# Altium footprint library Mod.PcbLib: 24 footprints (part 2 of 2)
Each footprint in its own frame and in the unit in brackets; x right, y up, seen from the top. Pads: shape width x height; smd on the part's side, far side on the other; paste and mask are expansions set on the pad; w line width, h text height; cw(c..) or ccw(c..) is an arc to the next point about the centre after c.
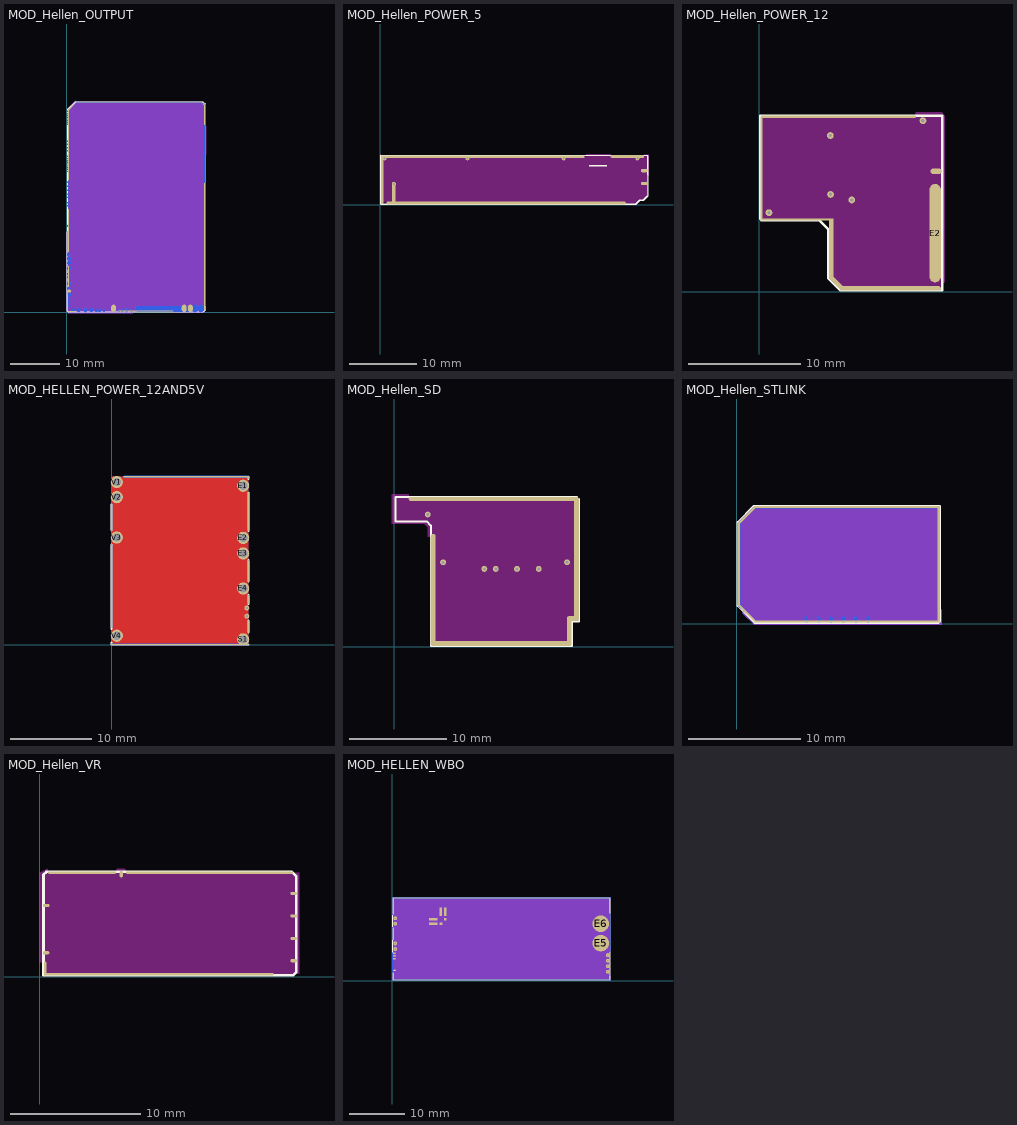
[diagram p1: the footprints below, top view; thin cyan lines are the x and y axes]

## MOD_Hellen_OUTPUT [mm] "Hellen One : Outputs module interface"
pads (73):
  oval 0.2x3.6 smd paste-50 mask+0.102: G(0.175,2.025)
  oval 0.2x0.3 smd rot 45 paste-50 mask+0.102: G(0.245,0.273)
  oval 0.2x4.25 smd paste-50 mask+0.102: G(0.325,7.335)
  oval 0.2x14.4 smd paste-50 mask+0.102: G(0.327,34.056)
  oval 0.2x8.825 smd paste-50 mask+0.102: G(0.327,16.697)
  oval 1.7x0.2 smd paste-50 mask+0.102: G(1.075,0.2)
  oval 2.43x0.2 smd rot 45 paste-50 mask+0.102: G(1.135,42.031)
  oval 25.7x0.2 smd paste-50 mask+0.102: G(14.7,42.835)
  oval 25.6x0.2 smd far side paste-50 mask+0.102: G(14.7,42.825)
  oval 11.325x0.2 smd paste-50 mask+0.102: G(16.025,0.26)
  oval 0.2x1.2 smd far side rot 45 paste-50 mask+0.102: G(27.745,42.47)
  oval 1x0.2 smd rot 135 paste-50 mask+0.102: G(27.789,42.551)
  oval 0.2x25.85 smd paste-50 mask+0.102: G(28.075,13.46)
  oval 0.2x4.15 smd paste-50 mask+0.102: G(28.077,40.271)
  oval 0.2x40.8 smd far side paste-50 mask+0.102: G(28.1,21.8)
  oval 1x1.5 smd far side paste-50: S1(27.302,0.814) S2(26.046,0.814)
  oval 11.4x1.1 smd far side paste-50: S3(19.602,0.689)
  oval 1x1.5 smd paste-50: S4(25.157,0.839) S5(23.902,0.839) S11(9.527,0.839)
  oval 0.4x0.6 smd far side paste-50: S6(13.152,0.389) S8(11.307,0.389) S9(10.577,0.389) S10(9.682,0.389) S12(7.607,0.389) S13(6.707,0.389) S14(5.997,0.389)
  oval 0.6x0.8 smd far side paste-50: S7(12.177,0.489) S15(4.977,0.489) S16(3.802,0.489) S17(2.452,0.489) S18(1.277,0.489)
  oval 0.6x0.4 smd far side paste-50: W1(0.377,1.419) W2(0.377,2.114) W3(0.377,2.794) W6(0.377,4.919) W8(0.377,7.164) W9(0.377,7.814) W13(0.377,11.789) W14(0.377,17.639)
  oval 0.8x0.6 smd far side paste-50: W4(0.472,3.614) W7(0.472,5.889) W10(0.472,9.014) W11(0.472,10.089) W12(0.472,10.964)
  oval 0.8x0.6 smd paste-50: W5(0.472,4.335)
  oval 0.4x0.2 smd far side paste-50: W15(0.272,21.694) W16(0.272,22.354) W17(0.272,23.414) W18(0.272,24.118) W19(0.272,24.918) W20(0.272,25.718) W21(0.272,26.514) W22(0.272,28.709) W23(0.272,29.149) W24(0.272,29.589) W25(0.272,30.029) W26(0.272,30.469) W27(0.272,30.909) W28(0.272,31.349) W29(0.272,31.789) W30(0.272,32.914) W31(0.272,33.574) W32(0.272,34.234) W33(0.272,34.894) W34(0.272,38.299) W35(0.272,38.739) W36(0.272,39.179) W37(0.272,39.619) W38(0.272,40.059) W39(0.272,40.499) W40(0.272,40.939)
Top Layer keep-out:
  region: 0.175,0.342 0.175,3.75 -0.025,3.95 -0.025,4.885 0.35,5.26 0.35,9.375 0.3,9.425 0.05,9.425 0.05,12.275 0.125,12.35 0.35,12.35 0.35,21.05 0.175,21.225 0.175,26.825 0.275,26.925 0.35,26.925 0.359,41.263 1.954,42.858 27.485,42.858 27.485,42.829 28.087,42.227 28.087,38.21 28.35,37.96 28.347,26.41 28.235,26.41 28.075,26.25 28.075,0.66 27.972,0.66 27.972,-0.065 21.65,-0.065 21.368,0.217 21.368,0.263 10.463,0.263 10.25,0.05 10.25,0 1.875,0 1.825,0.05 1.825,0.2 0.317,0.2
Bottom Layer keep-out:
  region: 0.325,-0.2 -0.025,0.15 -0.025,16.425 0.05,16.5 0.05,41.425 1.75,43.125 1.979,42.827 27.388,42.827 28.114,42.101 28.114,1.508 28.27,1.343 28.27,0.515 27.804,-0.035 25.492,-0.028 25.09,0.61 14.255,0.61 13.445,-0.2
Top Overlay:
  lines w0.2: 0.07,0.35 0.07,16.482 0.202,16.614 0.202,41.364 1.777,42.939 27.702,42.939 28.177,42.464 28.177,0.489 27.797,0.109 0.31,0.109 0.131,0.289 0.07,0.35
Bottom Overlay:
  lines w0.2: 0.066,0.349 0.31,0.106 27.794,0.106 28.177,0.489 28.177,42.464 27.702,42.939 1.777,42.939 0.202,41.364 0.202,16.614 0.066,16.478 0.066,0.349

## MOD_Hellen_POWER_5 [mm] "Hellen One : 5V power module interface"
pads (13):
  oval 0.4x7.2 smd paste-50 mask+0.102: G(0.325,3.719)
  round 0.6 hole 0.3 paste-2539.97: G(0.637,6.9) G(12.9,6.9) G(27.1,6.9) G(38,6.9) V2(2.025,3.1)
  oval 30x0.4 smd paste-50 mask+0.102: G(15.2,7.125)
  oval 5x0.4 smd paste-50 mask+0.102: G(36.512,7.175)
  oval 1x0.5 smd paste-50: G(39.02,3.175) V1(39.02,5.075)
  oval 0.2x3.1 smd paste-50 mask+0.102: G(39.495,2.875)
  oval 0.5x3 smd paste-50 mask+0.102: V2(2.025,1.717)
  oval 35.4x0.4 smd paste-50 mask+0.102: V2(18.6,0.3)
Top Layer keep-out:
  region: 0.325,0.4 0.325,0.425 0.35,7.075 0.406,7.131 17.8,7.131 22.518,7.132 22.65,7.131 22.675,7.13 30.4,7.15 30.45,7.2 30.45,7.475 34.075,7.475 34.175,7.375 34.175,7.15 38.775,7.15 39.05,7.425 39.675,7.425 39.675,4.378 39.475,4.375 39.475,4.354 39.46,4.34 39.46,1.148 38.931,0.619 38.425,0.619 38.011,0.205 36.195,0.205 36,0.4
Top Overlay:
  lines w0.2: 30.875,5.825 33.5,5.825 ; 0.1,0.1 0.1,7.35 39.525,7.275 39.525,1.35 38.875,0.7 38.35,0.7 37.75,0.1 0.1,0.1
Bottom Overlay:
  lines w0.2: 30.875,5.825 33.5,5.825 ; 0.1,0.1 0.1,7.35 39.525,7.275 39.525,1.35 38.875,0.7 38.35,0.7 37.75,0.1 0.1,0.1

## MOD_Hellen_POWER_12 [mm] "Hellen One : 12V power module interface"
pads (14):
  oval 1x0.5 smd paste-50: E1(15.725,10.7)
  oval 1x8.745 smd paste-50 mask+0.102: E2(15.64,5.197)
  oval 0.2x9.2 smd paste-50 mask+0.102: S1(0.2,10.944)
  oval 0.2x0.5 smd paste-50: S1(0.2,6.65)
  oval 6.5x0.2 smd paste-50 mask+0.102: S1(3.35,6.425)
  oval 0.4x5.4 smd paste-50 mask+0.102: S1(6.4,3.775)
  oval 0.4x1.6 smd rot 45 paste-50 mask+0.102: S1(6.9,0.775)
  oval 13.8x0.2 smd paste-50 mask+0.102: S1(7.044,15.55)
  oval 9x0.4 smd paste-50 mask+0.102: S1(11.65,0.3)
  round 0.6 hole 0.3 paste-2539.97: V1(14.55,15.2) V2(6.325,13.875) V3(6.343,8.643) V4(8.225,8.15) V5(0.875,7.025)
Top Layer keep-out:
  region: 0.225,6.425 0.25,6.45 0.25,15.55 13.875,15.55 13.9,15.575 13.9,15.924 16.238,15.926 16.482,15.625 16.482,0.832 16.373,0.832 15.975,0.325 7.375,0.325 6.425,1.275 6.425,6.375 6.4,6.4
Top Overlay:
  lines w0.2: 0.1,6.45 0.22,6.33 5.369,6.33 6.125,5.574 6.125,1.199 7.224,0.1 16.275,0.1 16.275,15.625 0.1,15.625 0.1,6.45
Bottom Overlay:
  lines w0.2: 0.1,6.45 0.225,6.325 5.375,6.325 6.125,5.575 6.125,1.175 7.2,0.1 16.275,0.1 16.275,15.625 0.1,15.625 0.1,6.45

## MOD_HELLEN_POWER_12AND5V [mm] "Hellen One : power module interface"
pads (51):
  round 1.5 hole 1 paste-2539.97: E1(16.15,19.5) E2(16.15,13.1) E3(16.15,11.2) E4(16.15,6.9) S1(16.15,0.65) V1(0.65,19.95) V2(0.65,18.1) V3(0.65,13.15) V4(0.65,1.1)
  round 0.6 hole 0.3 paste-2539.97: E5(16.6,4.5) E6(16.6,3.5)
  oval 0.2x0.3 on Mid1 paste-50 mask-1: S1(0,0.05) S1(16.8,20.55)
  oval 0.2x0.3 smd far side paste-50 mask-1: S1(0,0.05) S1(16.8,20.55)
  oval 0.2x0.3 smd paste-50 mask-1: S1(0,0.05) S1(16.8,20.55)
  oval 0.2x0.3 on Mid2 paste-50 mask-1: S1(0,0.05) S1(16.8,20.55)
  oval 0.2x10.2 on Mid1 paste-50 mask-1: S1(0,7.15)
  oval 0.2x10.2 smd far side paste-50 mask-1: S1(0,7.15)
  oval 0.2x10.2 smd paste-50 mask-1: S1(0,7.15)
  oval 0.2x10.2 on Mid2 paste-50 mask-1: S1(0,7.15)
  oval 0.2x3.3 on Mid1 paste-50 mask-1: S1(0,15.65)
  oval 0.2x3.3 smd far side paste-50 mask-1: S1(0,15.65)
  oval 0.2x3.3 smd paste-50 mask-1: S1(0,15.65)
  oval 0.2x3.3 on Mid2 paste-50 mask-1: S1(0,15.65)
  oval 17x0.2 on Mid1 paste-50 mask-1: S1(8.4,0)
  oval 17x0.2 smd far side paste-50 mask-1: S1(8.4,0)
  oval 17x0.2 smd paste-50 mask-1: S1(8.4,0)
  oval 17x0.2 on Mid2 paste-50 mask-1: S1(8.4,0)
  oval 15.4x0.2 on Mid1 paste-50 mask-1: S1(9.2,20.6)
  oval 15.4x0.2 smd far side paste-50 mask-1: S1(9.2,20.6)
  oval 15.4x0.2 smd paste-50 mask-1: S1(9.2,20.6)
  oval 15.4x0.2 on Mid2 paste-50 mask-1: S1(9.2,20.6)
  oval 0.2x1.5 on Mid1 paste-50 mask-1: S1(16.8,2.2)
  oval 0.2x1.5 smd far side paste-50 mask-1: S1(16.8,2.2)
  oval 0.2x1.5 smd paste-50 mask-1: S1(16.8,2.2)
  oval 0.2x1.5 on Mid2 paste-50 mask-1: S1(16.8,2.2)
  oval 0.2x1 on Mid1 paste-50 mask-1: S1(16.8,5.5)
  oval 0.2x1 smd far side paste-50 mask-1: S1(16.8,5.5)
  oval 0.2x1 smd paste-50 mask-1: S1(16.8,5.5)
  oval 0.2x1 on Mid2 paste-50 mask-1: S1(16.8,5.5)
  oval 0.2x2.6 on Mid1 paste-50 mask-1: S1(16.8,9)
  oval 0.2x2.6 smd far side paste-50 mask-1: S1(16.8,9)
  oval 0.2x2.6 smd paste-50 mask-1: S1(16.8,9)
  oval 0.2x2.6 on Mid2 paste-50 mask-1: S1(16.8,9)
  oval 0.2x4.8 on Mid1 paste-50 mask-1: S1(16.8,16.35)
  oval 0.2x4.8 smd far side paste-50 mask-1: S1(16.8,16.35)
  oval 0.2x4.8 smd paste-50 mask-1: S1(16.8,16.35)
  oval 0.2x4.8 on Mid2 paste-50 mask-1: S1(16.8,16.35)
Top Layer:
  pour cut-out: 0,20.6 16.8,20.6 16.8,0 0,0
Mid-Layer 1:
  pour cut-out: 0,20.6 16.8,20.6 16.8,0 0,0
Mid-Layer 2:
  pour cut-out: 0,20.6 16.8,20.6 16.8,0 0,0
Bottom Layer:
  pour cut-out: 0,20.6 16.8,20.6 16.8,0 0,0
Top Overlay:
  lines w0.2: 0,0.3 0,0 15.4,0 ; 0,1.9 0,12.3 ; 0,14 0,17.2 ; 1.5,20.6 16.8,20.6 16.8,20.3 ; 16.8,1.45 16.8,3 ; 16.8,5 16.8,6.1 ; 16.8,7.7 16.8,10.4 ; 16.8,13.9 16.8,18.7
Bottom Overlay:
  lines w0.2: 0,0.3 0,0 15.4,0 ; 0,1.9 0,12.3 ; 0,14 0,17.2 ; 1.5,20.6 16.8,20.6 16.8,20.3 ; 16.8,1.45 16.8,3 ; 16.8,5 16.8,6.1 ; 16.8,7.7 16.8,10.4 ; 16.8,13.9 16.8,18.7

## MOD_Hellen_SD [mm] "Hellen One : SD-card module interface"
pads (13):
  oval 0.5x11.4 smd paste-50 mask+0.102: G(3.975,5.887)
  oval 17.4x0.4 smd paste-50 mask+0.102: G(10.175,15.175)
  oval 14.45x0.5 smd paste-50 mask+0.102: G(10.945,0.35)
  oval 0.5x3 smd paste-50 mask+0.102: G(17.925,1.625)
  oval 1.2x0.5 smd paste-50 mask+0.102: G(18.275,2.9)
  oval 0.5x12.7 smd paste-50 mask+0.102: G(18.675,9.012)
  round 0.6 hole 0.3: V1(3.425,13.575) V2(5,8.67) V3(17.704,8.679) V4(9.225,8) V5(10.4,8) V6(12.575,8) V7(14.8,8)
Top Layer keep-out:
  region: -0.275,12.625 -0.275,15.63 1.458,15.63 1.459,15.291 1.575,15.175 1.587,15.187 18.612,15.187 18.601,15.176 18.601,2.9 17.942,2.9 17.942,0.375 3.925,0.375 3.95,0.4 3.95,11.275 3.399,11.275 3.399,12.276 3.05,12.625
Top Overlay:
  lines w0.2: 18.75,15.375 0.1,15.375 0.1,12.875 3.3,12.875 3.75,12.425 3.75,0.1 18.201,0.1 18.201,2.608 18.95,2.608 18.95,15.175
Bottom Overlay:
  lines w0.2: 18.75,15.375 0.1,15.375 0.1,12.875 3.3,12.875 3.75,12.425 3.75,0.1 18.201,0.1 18.201,2.61 18.95,2.61 18.95,15.175

## MOD_Hellen_STLINK [mm] "Hellen One : ST/Link module interface"
pads (17):
  rrect100% 0.2x7.49 smd far side paste-50 mask+0.102: G(0.225,5.322)
  rrect100% 0.2x7.49 smd paste-50 mask+0.102: G(0.225,5.322)
  rrect100% 0.2x0.8 smd far side rot 45 paste-50 mask+0.102: G(0.448,1.452)
  rrect100% 0.2x2.19 smd far side rot 135 paste-50 mask+0.102: G(0.935,9.701)
  rrect100% 0.2x2.19 smd rot 135 paste-50 mask+0.102: G(0.935,9.701)
  rrect100% 0.2x2.24 smd rot 45 paste-50 mask+0.102: G(0.948,0.952)
  rrect100% 16.55x0.2 smd far side paste-50 mask+0.102: G(9.821,10.407)
  rrect100% 16.55x0.2 smd paste-50 mask+0.102: G(9.821,10.407)
  rrect100% 16.46x0.2 smd paste-50 mask+0.102: G(9.854,0.229)
  rrect100% 0.2x10.37 smd paste-50 mask+0.102: G(18.017,5.312)
  rrect100% 0.2x9.37 smd far side paste-50 mask+0.102: G(18.017,5.812)
  rrect100% 0.25x0.5 smd far side paste-50: N1(11.725,0.4) N2(10.625,0.4) N3(9.525,0.4) N4(8.425,0.4) N5(7.325,0.4) N6(6.225,0.4)
Top Layer keep-out:
  region: 0.225,1.675 0.225,8.975 1.65,10.4 18,10.4 18.025,10.375 18.025,0.25 1.7,0.25
Bottom Layer keep-out:
  region: 0.678,1.221 0.221,1.678 0.221,8.981 0.219,8.983 1.642,10.406 17.951,10.406 17.977,10.38 17.977,1.259 18.3,1.259 18.3,-0.075 1.575,-0.075 0.525,0.975
Top Overlay:
  lines w0.2: 0.1,1.625 1.626,0.099 17.974,0.099 18.108,0.233 18.133,10.474 18.107,10.5 1.55,10.5 0.1,9.05 0.1,1.625
Bottom Overlay:
  lines w0.2: 0.1,1.625 1.626,0.099 17.974,0.099 18.108,0.233 18.133,10.474 18.107,10.5 1.55,10.5 0.1,9.05 0.1,1.625

## MOD_Hellen_VR [mm] "Hellen One : VR module interface"
pads (11):
  oval 0.5x0.25 smd: E1(19.45,6.375) E2(19.45,4.65) E3(19.45,2.925) E4(19.45,1.225) W1(0.494,1.829) W2(0.5,5.45)
  oval 0.2x1 smd paste-50 mask+0.07: G(0.418,0.664)
  oval 5.2x0.2 smd paste-50 mask+0.07: G(3.255,7.969)
  oval 17.6x0.2 smd paste-50 mask+0.07: G(9.127,0.197)
  oval 12.8x0.2 smd paste-50 mask+0.07: G(13,7.975)
  oval 0.25x0.5 smd: N1(6.25,7.85)
Top Layer keep-out:
  region: 0.427,0.225 0.427,1.121 0.224,1.121 0.025,1.121 0.025,7.975 0.598,8.257 0.745,7.95 5.743,7.95 5.943,8.257 6.512,8.257 6.638,7.95 19.9,7.95 19.9,0.225
Top Overlay:
  lines w0.2: 0.3,0.1 19.425,0.1 19.65,0.325 19.65,7.7 19.325,8.025 0.515,8.025 0.3,7.81 0.3,0.1
Bottom Overlay:
  lines w0.2: 0.3,0.1 19.425,0.1 19.65,0.325 19.65,7.7 19.325,8.025 0.515,8.025 0.3,7.81 0.3,0.1

## MOD_HELLEN_WBO [mm] "Hellen One : WBO module interface"
pads (34):
  round 0.7 hole 0.3: E1(38.8,1.65) E2(38.8,2.65) E3(38.8,3.65) E4(38.8,4.65) W1(0.55,11.3) W2(0.55,10.3) W3(0.55,6.75) W4(0.55,5.75)
  round 3 smd: E5(37.55,6.8) E6(37.55,10.3)
  rect 0.25x1.45 smd: G(0.175,0.775)
  rect 0.25x5.05 smd far side: G(0.175,2.575)
  rect 0.25x2.25 smd: G(0.175,8.525)
  rect 0.25x2.25 smd far side: G(0.175,8.525)
  rect 0.25x3.1 smd: G(0.175,13.5)
  rect 0.25x3.1 smd far side: G(0.175,13.5)
  rect 39.25x0.25 smd: G(19.675,0.175) G(19.675,14.925)
  rect 39.25x0.25 smd far side: G(19.675,0.175) G(19.675,14.925)
  rect 0.25x0.95 smd: G(39.175,0.525)
  rect 0.25x0.95 smd far side: G(39.175,0.525)
  rect 0.25x9.75 smd far side: G(39.175,10.175)
  rect 0.25x2.95 smd: G(39.175,13.575)
  rrect25% 0.5x1.5 smd: J1(9.55,12.475) J_GND1(8.75,12.475)
  rrect25% 1.5x0.5 smd: J2(7.375,10.3) J_VCC2(7.375,11.1)
  rrect25% 0.5x0.5 smd: J_GND2(8.8,10.3) J_VCC1(9.55,11.1)
  oval 0.5x0.25 smd: W5(0.4,5) W6(0.4,4.5) W7(0.4,4) W8(0.4,1.9)
Top Layer keep-out:
  region: 0.175,0.2 0.175,14.925 39.175,14.925 39.175,0.175
Bottom Layer keep-out:
  region: 0.175,0.2 39.175,0.175 39.175,14.925 0.175,14.925
Top Overlay:
  lines w0.2: 0.1,0.1 39.25,0.1 39.25,15 0.1,15 0.1,0.1
Bottom Overlay:
  lines w0.2: 0.1,0.1 39.25,0.1 39.25,15 0.1,15 0.1,0.1